# Altium schematic symbol library Linear Technology Power Management Energy Harvesting.SchLib: 169 symbols (part 11 of 13)
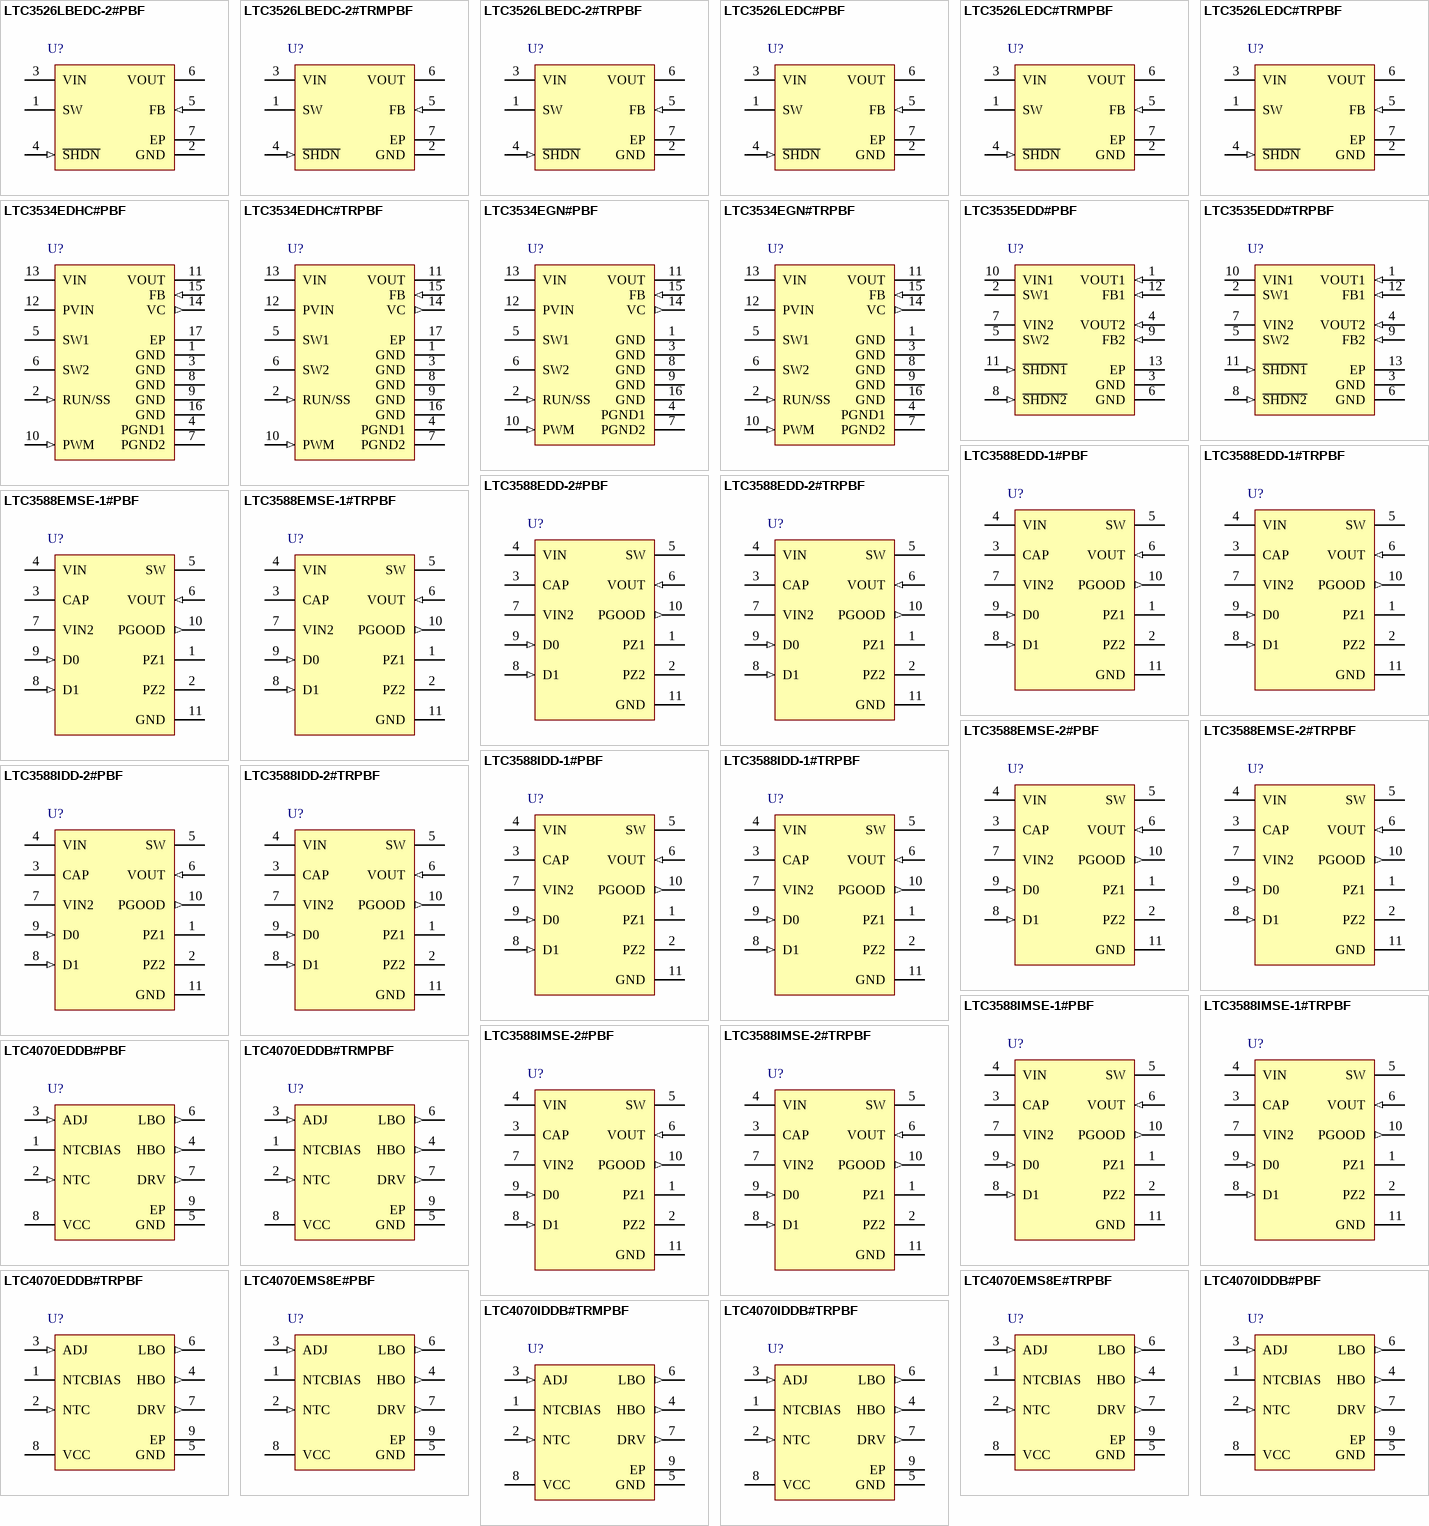
[diagram p15: symbols LTC3526LBEDC-2#PBF to LTC4070IDDB#TRPBF]

## LTC3535EDD#TRPBF
designator U?
Dual Channel 550 mA 1 MHz Synchronous Step-Up DC/DC Converter, 12-pin SON (DD-12), -40 to 85 degC, Pb-Free, Tape and Reel; Manufacturer: Linear Technology; PartNumber: LTC3535EDD#TRPBF; Number of Outputs: 2; Topology: Boost; Vin Max(V): 5; Vin Min(V): 0.5; DatasheetVersion: Rev. A; PackageVersion: Rev. A, 06/2010; PackageReference: DD-12; PackageDescription: 12-Pin Plastic DFN, Body 3 x 3 mm, Pitch 0.45 mm; Supplier 1: Digi-Key; Supplier Part Number 1: LTC3535EDD#TRPBF-ND; Packing: Tape and Reel; RoHS: TRUE; Mounting Technology: Surface Mount; ComponentLink1Description: Manufacturer URL; ComponentLink1URL: http://www.linear.com/; ComponentLink2Description: Datasheet; ComponentLink2URL: http://cds.linear.com/docs/en/datasheet/3535fa.pdf; ComponentLink3Description: Package Specification; ComponentLink3URL: http://cds.linear.com/docs/en/packaging/DFN_12_05-08-1725.pdf
footprint LT-DD-12_V (SON, 12-Leads, Body 3x3mm, Pitch 0.45mm, Thermal Pad 2.38x1.65mm)
pins: 1 VOUT1 (in) "Output Voltage Sense and Drain of the Internal Synchronous Rectifier for Channel 1. PCB trace length from VOUT1 to the output filter capacitor (4.7uF minimum) should be as short and wide as possible.", 2 SW1 "Switch Pin for Channel 1. Connect inductor between SW1 and VIN1. Keep PCB trace lengths as short and wide as possible to reduce EMI. If the inductor current falls to zero, or S\H\D\N\1\ is low, an internal anti-ringing (See Datasheet)", 3 GND (power) "Signal and Power Ground. Provide a short direct PCB path between GND and the (-) side of the input and output capacitors. The exposed pad must be soldered to the PCB ground plane. It serves as another ground connection and (See Datasheet)", 4 VOUT2 (in) "Output Voltage Sense and Drain of the Internal Synchronous Rectifier for Channel 2. PCB trace length from VOUT2 to the output filter capacitor (4.7uF minimum) should be as short and wide as possible.", 5 SW2 "Switch Pin for Channel 2. Connect inductor between SW2 and VIN2. Keep PCB trace lengths as short and wide as possible to reduce EMI. If the inductor current falls to zero, or S\H\D\N\2\ is low, an internal anti-ringing (See Datasheet)", 6 GND (power) "Signal and Power Ground. Provide a short direct PCB path between GND and the (-) side of the input and output capacitors. The exposed pad must be soldered to the PCB ground plane. It serves as another ground connection and (See Datasheet)", 7 VIN2 (power) "Battery Input Voltage for Channel 2. Connect a minimum of 1uF ceramic decoupling capacitor from this pin to ground.", 8 ~{SHDN2} (in) "Logic Controlled Shutdown Input for Channel 2. There is an internal 4Mohm pull-down on this pin. S\H\D\N\ = High: Normal operation. S\H\D\N\ = Low: Shutdown, quiescent current < 1uA.", 9 FB2 (in) "Feedback Input to the gm Error Amplifier of Channel 2. Connect resistor divider tap to this pin. The output voltage can be adjusted from 1.5V to 5.25V by: VOUT = 1.195V x [1 + (R4/R3)]", 10 VIN1 (power) "Battery Input Voltage for Channel 1. Connect a minimum of 1uF ceramic decoupling capacitor from this pin to ground.", 11 ~{SHDN1} (in) "Logic Controlled Shutdown Input for Channel 1. There is an internal 4Mohm pull-down on this pin. S\H\D\N\ = High: Normal operation. S\H\D\N\ = Low: Shutdown, quiescent current < 1uA.", 12 FB1 (in) "Feedback Input to the gm Error Amplifier of Channel 1. Connect resistor divider tap to this pin. The output voltage can be adjusted from 1.5V to 5.25V by: VOUT = 1.195V x [1 + (R2/R1)].", 13 EP (power) "Signal and Power Ground. Provide a short direct PCB path between GND and the (-) side of the input and output capacitors. The exposed pad must be soldered to the PCB ground plane. It serves as another ground connection and (See Datasheet)"

## LTC3588EDD-1#PBF
designator U?
Piezoelectric Energy Harvesting Power Supply, 10-pin SON (DD-10), -40 to 125 degC, Pb-Free; Manufacturer: Linear Technology; PartNumber: LTC3588EDD-1#PBF; Number of Outputs: 1; Topology: Buck; Vin Max(V): 20; Vin Min(V): 2.7; Vout Max(V): 1.8, 2.5, 3.3, 3.6; DatasheetVersion: Rev. A; PackageVersion: Rev. C, 06/2010; PackageReference: DD-10; PackageDescription: 10-Pin Plastic DFN, Body 3 x 3 mm, Pitch 0.5 mm; Supplier 1: Digi-Key; Supplier Part Number 1: LTC3588EDD-1#PBF-ND; Supplier 2: Farnell; Supplier Part Number 2: 1839153; Supplier 3: Newark; Supplier Part Number 3: 63R1665; Energy Source: Piezoelectric; RoHS: TRUE; Mounting Technology: Surface Mount; Code_JEDEC: MO-229; ComponentLink1Description: Manufacturer URL; ComponentLink1URL: http://www.linear.com/; ComponentLink2Description: Datasheet; ComponentLink2URL: http://cds.linear.com/docs/en/datasheet/35881fa.pdf; ComponentLink3Description: Package Specification; ComponentLink3URL: http://cds.linear.com/docs/en/packaging/DFN_10_05-08-1699.pdf
footprint LT-DD-10_V (SON, 10-Leads, Body 3x3mm, Pitch 0.5mm, Thermal Pad 2.38x1.65mm)
pins: 1 PZ1 (power) "Input connection for piezoelectric element or other AC source (used in conjunction with PZ2).", 2 PZ2 (power) "Input connection for piezoelectric element or other AC source (used in conjunction with PZ1).", 3 CAP "Internal rail referenced to VIN to serve as gate drive for buck PMOS switch. A 1uF capacitor should be connected between CAP and VIN. This pin is not intended for use as an external system rail.", 4 VIN (power) "Rectified Input Voltage. A capacitor on this pin serves as an energy reservoir and input supply for the buck regulator. The VIN voltage is internally clamped to a maximum of 20V (typical).", 5 SW (power) "Switch Pin for the Buck Switching Regulator. A 22uH or larger inductor should be connected from SW to VOUT.", 6 VOUT (in) "Sense pin used to monitor the output voltage and adjust it through internal feedback.", 7 VIN2 (power) "Internal low voltage rail to serve as gate drive for buck NMOS switch. Also serves as a logic high rail for output voltage select bits D0 and D1. A 4.7uF capacitor should be connected from VIN2 to GND. This pin is not (See Datasheet)", 8 D1 (in) "Output Voltage Select Bit. D1 should be tied high to VIN2 or low to GND to select desired VOUT (see Table 1).", 9 D0 (in) "Output Voltage Select Bit. D0 should be tied high to VIN2 or low to GND to select desired VOUT (see Table 1).", 10 PGOOD (out) "Power good output is logic high when VOUT is above 92% of the target value. The logic high is referenced to the VOUT rail.", 11 GND (power) "Ground. The Exposed Pad should be connected to a continuous ground plane on the second layer of the printed circuit board by several vias directly under the LTC3588-2."

## LTC3588EDD-1#TRPBF
designator U?
Piezoelectric Energy Harvesting Power Supply, 10-pin SON (DD-10), -40 to 125 degC, Pb-Free, Tape and Reel; Manufacturer: Linear Technology; PartNumber: LTC3588EDD-1#TRPBF; Number of Outputs: 1; Topology: Buck; Vin Max(V): 20; Vin Min(V): 2.7; Vout Max(V): 1.8, 2.5, 3.3, 3.6; DatasheetVersion: Rev. A; PackageVersion: Rev. C, 06/2010; PackageReference: DD-10; PackageDescription: 10-Pin Plastic DFN, Body 3 x 3 mm, Pitch 0.5 mm; Supplier 1: Digi-Key; Supplier Part Number 1: LTC3588EDD-1#TRPBF-ND; Supplier 2: Newark; Supplier Part Number 2: 63R7765; Energy Source: Piezoelectric; Packing: Tape and Reel; RoHS: TRUE; Mounting Technology: Surface Mount; Code_JEDEC: MO-229; ComponentLink1Description: Manufacturer URL; ComponentLink1URL: http://www.linear.com/; ComponentLink2Description: Datasheet; ComponentLink2URL: http://cds.linear.com/docs/en/datasheet/35881fa.pdf; ComponentLink3Description: Package Specification; ComponentLink3URL: http://cds.linear.com/docs/en/packaging/DFN_10_05-08-1699.pdf
footprint LT-DD-10_V (SON, 10-Leads, Body 3x3mm, Pitch 0.5mm, Thermal Pad 2.38x1.65mm)
pins: 1 PZ1 (power) "Input connection for piezoelectric element or other AC source (used in conjunction with PZ2).", 2 PZ2 (power) "Input connection for piezoelectric element or other AC source (used in conjunction with PZ1).", 3 CAP "Internal rail referenced to VIN to serve as gate drive for buck PMOS switch. A 1uF capacitor should be connected between CAP and VIN. This pin is not intended for use as an external system rail.", 4 VIN (power) "Rectified Input Voltage. A capacitor on this pin serves as an energy reservoir and input supply for the buck regulator. The VIN voltage is internally clamped to a maximum of 20V (typical).", 5 SW (power) "Switch Pin for the Buck Switching Regulator. A 22uH or larger inductor should be connected from SW to VOUT.", 6 VOUT (in) "Sense pin used to monitor the output voltage and adjust it through internal feedback.", 7 VIN2 (power) "Internal low voltage rail to serve as gate drive for buck NMOS switch. Also serves as a logic high rail for output voltage select bits D0 and D1. A 4.7uF capacitor should be connected from VIN2 to GND. This pin is not (See Datasheet)", 8 D1 (in) "Output Voltage Select Bit. D1 should be tied high to VIN2 or low to GND to select desired VOUT (see Table 1).", 9 D0 (in) "Output Voltage Select Bit. D0 should be tied high to VIN2 or low to GND to select desired VOUT (see Table 1).", 10 PGOOD (out) "Power good output is logic high when VOUT is above 92% of the target value. The logic high is referenced to the VOUT rail.", 11 GND (power) "Ground. The Exposed Pad should be connected to a continuous ground plane on the second layer of the printed circuit board by several vias directly under the LTC3588-2."

## LTC3588EDD-2#PBF
designator U?
Piezoelectric Energy Harvesting Power Supply with 14 V Minimum VIN, 10-pin SON (DD-10), -40 to 125 degC, Pb-Free; Manufacturer: Linear Technology; PartNumber: LTC3588EDD-2#PBF; Number of Outputs: 1; Topology: Buck; Vin Max(V): 20; Vin Min(V): 14; Vout Max(V): 3.45, 4.1, 4.5, 5; DatasheetVersion: Rev. A; PackageVersion: Rev. C, 06/2010; PackageReference: DD-10; PackageDescription: 10-Pin Plastic DFN, Body 3 x 3 mm, Pitch 0.5 mm; Supplier 1: Digi-Key; Supplier Part Number 1: LTC3588EDD-2#PBF-ND; Supplier 2: Farnell; Supplier Part Number 2: 1961465; Supplier 3: Newark; Supplier Part Number 3: 84R6696; Energy Source: Piezoelectric; RoHS: TRUE; Mounting Technology: Surface Mount; Code_JEDEC: MO-229; ComponentLink1Description: Manufacturer URL; ComponentLink1URL: http://www.linear.com/; ComponentLink2Description: Datasheet; ComponentLink2URL: http://cds.linear.com/docs/en/datasheet/35882fa.pdf; ComponentLink3Description: Package Specification; ComponentLink3URL: http://cds.linear.com/docs/en/packaging/DFN_10_05-08-1699.pdf
footprint LT-DD-10_V (SON, 10-Leads, Body 3x3mm, Pitch 0.5mm, Thermal Pad 2.38x1.65mm)
pins: 1 PZ1 (power) "Input connection for piezoelectric element or other AC source (used in conjunction with PZ2).", 2 PZ2 (power) "Input connection for piezoelectric element or other AC source (used in conjunction with PZ1).", 3 CAP "Internal rail referenced to VIN to serve as gate drive for buck PMOS switch. A 1uF capacitor should be connected between CAP and VIN. This pin is not intended for use as an external system rail.", 4 VIN (power) "Rectified Input Voltage. A capacitor on this pin serves as an energy reservoir and input supply for the buck regulator. The VIN voltage is internally clamped to a maximum of 20V (typical).", 5 SW (power) "Switch Pin for the Buck Switching Regulator. A 22uH or larger inductor should be connected from SW to VOUT.", 6 VOUT (in) "Sense pin used to monitor the output voltage and adjust it through internal feedback.", 7 VIN2 (power) "Internal low voltage rail to serve as gate drive for buck NMOS switch. Also serves as a logic high rail for output voltage select bits D0 and D1. A 4.7uF capacitor should be connected from VIN2 to GND. This pin is not (See Datasheet)", 8 D1 (in) "Output Voltage Select Bit. D1 should be tied high to VIN2 or low to GND to select desired VOUT (see Table 1).", 9 D0 (in) "Output Voltage Select Bit. D0 should be tied high to VIN2 or low to GND to select desired VOUT (see Table 1).", 10 PGOOD (out) "Power good output is logic high when VOUT is above 92% of the target value. The logic high is referenced to the VOUT rail.", 11 GND (power) "Ground. The Exposed Pad should be connected to a continuous ground plane on the second layer of the printed circuit board by several vias directly under the LTC3588-2."

## LTC3588EDD-2#TRPBF
designator U?
Piezoelectric Energy Harvesting Power Supply with 14 V Minimum VIN, 10-pin SON (DD-10), -40 to 125 degC, Pb-Free, Tape and Reel; Manufacturer: Linear Technology; PartNumber: LTC3588EDD-2#TRPBF; Number of Outputs: 1; Topology: Buck; Vin Max(V): 20; Vin Min(V): 14; Vout Max(V): 3.45, 4.1, 4.5, 5; DatasheetVersion: Rev. A; PackageVersion: Rev. C, 06/2010; PackageReference: DD-10; PackageDescription: 10-Pin Plastic DFN, Body 3 x 3 mm, Pitch 0.5 mm; Supplier 1: Digi-Key; Supplier Part Number 1: LTC3588EDD-2#TRPBF-ND; Energy Source: Piezoelectric; Packing: Tape and Reel; RoHS: TRUE; Mounting Technology: Surface Mount; Code_JEDEC: MO-229; ComponentLink1Description: Manufacturer URL; ComponentLink1URL: http://www.linear.com/; ComponentLink2Description: Datasheet; ComponentLink2URL: http://cds.linear.com/docs/en/datasheet/35882fa.pdf; ComponentLink3Description: Package Specification; ComponentLink3URL: http://cds.linear.com/docs/en/packaging/DFN_10_05-08-1699.pdf
footprint LT-DD-10_V (SON, 10-Leads, Body 3x3mm, Pitch 0.5mm, Thermal Pad 2.38x1.65mm)
pins: 1 PZ1 (power) "Input connection for piezoelectric element or other AC source (used in conjunction with PZ2).", 2 PZ2 (power) "Input connection for piezoelectric element or other AC source (used in conjunction with PZ1).", 3 CAP "Internal rail referenced to VIN to serve as gate drive for buck PMOS switch. A 1uF capacitor should be connected between CAP and VIN. This pin is not intended for use as an external system rail.", 4 VIN (power) "Rectified Input Voltage. A capacitor on this pin serves as an energy reservoir and input supply for the buck regulator. The VIN voltage is internally clamped to a maximum of 20V (typical).", 5 SW (power) "Switch Pin for the Buck Switching Regulator. A 22uH or larger inductor should be connected from SW to VOUT.", 6 VOUT (in) "Sense pin used to monitor the output voltage and adjust it through internal feedback.", 7 VIN2 (power) "Internal low voltage rail to serve as gate drive for buck NMOS switch. Also serves as a logic high rail for output voltage select bits D0 and D1. A 4.7uF capacitor should be connected from VIN2 to GND. This pin is not (See Datasheet)", 8 D1 (in) "Output Voltage Select Bit. D1 should be tied high to VIN2 or low to GND to select desired VOUT (see Table 1).", 9 D0 (in) "Output Voltage Select Bit. D0 should be tied high to VIN2 or low to GND to select desired VOUT (see Table 1).", 10 PGOOD (out) "Power good output is logic high when VOUT is above 92% of the target value. The logic high is referenced to the VOUT rail.", 11 GND (power) "Ground. The Exposed Pad should be connected to a continuous ground plane on the second layer of the printed circuit board by several vias directly under the LTC3588-2."

## LTC3588EMSE-1#PBF
designator U?
Piezoelectric Energy Harvesting Power Supply, 10-pin SOP (MSE-10), -40 to 125 degC, Pb-Free; Manufacturer: Linear Technology; PartNumber: LTC3588EMSE-1#PBF; Number of Outputs: 1; Topology: Buck; Vin Max(V): 20; Vin Min(V): 2.7; Vout Max(V): 1.8, 2.5, 3.3, 3.6; DatasheetVersion: Rev. A; PackageVersion: Rev. I, 05/2013; PackageReference: MSE-10; PackageDescription: 10-Pin Plastic MSOP, Exposed Die Pad, Body 3 x 3 mm, Pitch 0.5 mm; Supplier 1: Digi-Key; Supplier Part Number 1: LTC3588EMSE-1#PBF-ND; Supplier 2: Farnell; Supplier Part Number 2: 1839154; Supplier 3: Newark; Supplier Part Number 3: 63R1666; Energy Source: Piezoelectric; RoHS: TRUE; Mounting Technology: Surface Mount; ComponentLink1Description: Manufacturer URL; ComponentLink1URL: http://www.linear.com/; ComponentLink2Description: Datasheet; ComponentLink2URL: http://cds.linear.com/docs/en/datasheet/35881fa.pdf; ComponentLink3Description: Package Specification; ComponentLink3URL: http://cds.linear.com/docs/en/packaging/05081664_I_MSE.pdf
footprint LT-MSE-10-EDP_N (SOP, 10-Leads, Body 3.1x3.1mm, Pitch 0.5mm, Thermal Pad 1.88x1.68mm, IPC Medium Density)
footprint LT-MSE-10-EDP_L (SOP, 10-Leads, Body 3.1x3.1mm, Pitch 0.5mm, Thermal Pad 1.88x1.68mm, IPC High Density)
footprint LT-MSE-10-EDP_M (SOP, 10-Leads, Body 3.1x3.1mm, Pitch 0.5mm, Thermal Pad 1.88x1.68mm, IPC Low Density)
pins: 1 PZ1 (power) "Input connection for piezoelectric element or other AC source (used in conjunction with PZ2).", 2 PZ2 (power) "Input connection for piezoelectric element or other AC source (used in conjunction with PZ1).", 3 CAP "Internal rail referenced to VIN to serve as gate drive for buck PMOS switch. A 1uF capacitor should be connected between CAP and VIN. This pin is not intended for use as an external system rail.", 4 VIN (power) "Rectified Input Voltage. A capacitor on this pin serves as an energy reservoir and input supply for the buck regulator. The VIN voltage is internally clamped to a maximum of 20V (typical).", 5 SW (power) "Switch Pin for the Buck Switching Regulator. A 22uH or larger inductor should be connected from SW to VOUT.", 6 VOUT (in) "Sense pin used to monitor the output voltage and adjust it through internal feedback.", 7 VIN2 (power) "Internal low voltage rail to serve as gate drive for buck NMOS switch. Also serves as a logic high rail for output voltage select bits D0 and D1. A 4.7uF capacitor should be connected from VIN2 to GND. This pin is not (See Datasheet)", 8 D1 (in) "Output Voltage Select Bit. D1 should be tied high to VIN2 or low to GND to select desired VOUT (see Table 1).", 9 D0 (in) "Output Voltage Select Bit. D0 should be tied high to VIN2 or low to GND to select desired VOUT (see Table 1).", 10 PGOOD (out) "Power good output is logic high when VOUT is above 92% of the target value. The logic high is referenced to the VOUT rail.", 11 GND (power) "Ground. The Exposed Pad should be connected to a continuous ground plane on the second layer of the printed circuit board by several vias directly under the LTC3588-2."

## LTC3588EMSE-1#TRPBF
designator U?
Piezoelectric Energy Harvesting Power Supply, 10-pin SOP (MSE-10), -40 to 125 degC, Pb-Free, Tape and Reel; Manufacturer: Linear Technology; PartNumber: LTC3588EMSE-1#TRPBF; Number of Outputs: 1; Topology: Buck; Vin Max(V): 20; Vin Min(V): 2.7; Vout Max(V): 1.8, 2.5, 3.3, 3.6; DatasheetVersion: Rev. A; PackageVersion: Rev. I, 05/2013; PackageReference: MSE-10; PackageDescription: 10-Pin Plastic MSOP, Exposed Die Pad, Body 3 x 3 mm, Pitch 0.5 mm; Supplier 1: Digi-Key; Supplier Part Number 1: LTC3588EMSE-1#TRPBF-ND; Energy Source: Piezoelectric; Packing: Tape and Reel; RoHS: TRUE; Mounting Technology: Surface Mount; ComponentLink1Description: Manufacturer URL; ComponentLink1URL: http://www.linear.com/; ComponentLink2Description: Datasheet; ComponentLink2URL: http://cds.linear.com/docs/en/datasheet/35881fa.pdf; ComponentLink3Description: Package Specification; ComponentLink3URL: http://cds.linear.com/docs/en/packaging/05081664_I_MSE.pdf
footprint LT-MSE-10-EDP_N (SOP, 10-Leads, Body 3.1x3.1mm, Pitch 0.5mm, Thermal Pad 1.88x1.68mm, IPC Medium Density)
footprint LT-MSE-10-EDP_L (SOP, 10-Leads, Body 3.1x3.1mm, Pitch 0.5mm, Thermal Pad 1.88x1.68mm, IPC High Density)
footprint LT-MSE-10-EDP_M (SOP, 10-Leads, Body 3.1x3.1mm, Pitch 0.5mm, Thermal Pad 1.88x1.68mm, IPC Low Density)
pins: 1 PZ1 (power) "Input connection for piezoelectric element or other AC source (used in conjunction with PZ2).", 2 PZ2 (power) "Input connection for piezoelectric element or other AC source (used in conjunction with PZ1).", 3 CAP "Internal rail referenced to VIN to serve as gate drive for buck PMOS switch. A 1uF capacitor should be connected between CAP and VIN. This pin is not intended for use as an external system rail.", 4 VIN (power) "Rectified Input Voltage. A capacitor on this pin serves as an energy reservoir and input supply for the buck regulator. The VIN voltage is internally clamped to a maximum of 20V (typical).", 5 SW (power) "Switch Pin for the Buck Switching Regulator. A 22uH or larger inductor should be connected from SW to VOUT.", 6 VOUT (in) "Sense pin used to monitor the output voltage and adjust it through internal feedback.", 7 VIN2 (power) "Internal low voltage rail to serve as gate drive for buck NMOS switch. Also serves as a logic high rail for output voltage select bits D0 and D1. A 4.7uF capacitor should be connected from VIN2 to GND. This pin is not (See Datasheet)", 8 D1 (in) "Output Voltage Select Bit. D1 should be tied high to VIN2 or low to GND to select desired VOUT (see Table 1).", 9 D0 (in) "Output Voltage Select Bit. D0 should be tied high to VIN2 or low to GND to select desired VOUT (see Table 1).", 10 PGOOD (out) "Power good output is logic high when VOUT is above 92% of the target value. The logic high is referenced to the VOUT rail.", 11 GND (power) "Ground. The Exposed Pad should be connected to a continuous ground plane on the second layer of the printed circuit board by several vias directly under the LTC3588-2."

## LTC3588EMSE-2#PBF
designator U?
Piezoelectric Energy Harvesting Power Supply with 14 V Minimum VIN, 10-pin SOP (MSE-10), -40 to 125 degC, Pb-Free; Manufacturer: Linear Technology; PartNumber: LTC3588EMSE-2#PBF; Number of Outputs: 1; Topology: Buck; Vin Max(V): 20; Vin Min(V): 14; Vout Max(V): 3.45, 4.1, 4.5, 5; DatasheetVersion: Rev. A; PackageVersion: Rev. I, 05/2013; PackageReference: MSE-10; PackageDescription: 10-Pin Plastic MSOP, Exposed Die Pad, Body 3 x 3 mm, Pitch 0.5 mm; Supplier 1: Digi-Key; Supplier Part Number 1: LTC3588EMSE-2#PBF-ND; Supplier 2: Farnell; Supplier Part Number 2: 1847641; Supplier 3: Newark; Supplier Part Number 3: 84R6698; Energy Source: Piezoelectric; RoHS: TRUE; Mounting Technology: Surface Mount; ComponentLink1Description: Manufacturer URL; ComponentLink1URL: http://www.linear.com/; ComponentLink2Description: Datasheet; ComponentLink2URL: http://cds.linear.com/docs/en/datasheet/35882fa.pdf; ComponentLink3Description: Package Specification; ComponentLink3URL: http://cds.linear.com/docs/en/packaging/05081664_I_MSE.pdf
footprint LT-MSE-10-EDP_N (SOP, 10-Leads, Body 3.1x3.1mm, Pitch 0.5mm, Thermal Pad 1.88x1.68mm, IPC Medium Density)
footprint LT-MSE-10-EDP_L (SOP, 10-Leads, Body 3.1x3.1mm, Pitch 0.5mm, Thermal Pad 1.88x1.68mm, IPC High Density)
footprint LT-MSE-10-EDP_M (SOP, 10-Leads, Body 3.1x3.1mm, Pitch 0.5mm, Thermal Pad 1.88x1.68mm, IPC Low Density)
pins: 1 PZ1 (power) "Input connection for piezoelectric element or other AC source (used in conjunction with PZ2).", 2 PZ2 (power) "Input connection for piezoelectric element or other AC source (used in conjunction with PZ1).", 3 CAP "Internal rail referenced to VIN to serve as gate drive for buck PMOS switch. A 1uF capacitor should be connected between CAP and VIN. This pin is not intended for use as an external system rail.", 4 VIN (power) "Rectified Input Voltage. A capacitor on this pin serves as an energy reservoir and input supply for the buck regulator. The VIN voltage is internally clamped to a maximum of 20V (typical).", 5 SW (power) "Switch Pin for the Buck Switching Regulator. A 22uH or larger inductor should be connected from SW to VOUT.", 6 VOUT (in) "Sense pin used to monitor the output voltage and adjust it through internal feedback.", 7 VIN2 (power) "Internal low voltage rail to serve as gate drive for buck NMOS switch. Also serves as a logic high rail for output voltage select bits D0 and D1. A 4.7uF capacitor should be connected from VIN2 to GND. This pin is not (See Datasheet)", 8 D1 (in) "Output Voltage Select Bit. D1 should be tied high to VIN2 or low to GND to select desired VOUT (see Table 1).", 9 D0 (in) "Output Voltage Select Bit. D0 should be tied high to VIN2 or low to GND to select desired VOUT (see Table 1).", 10 PGOOD (out) "Power good output is logic high when VOUT is above 92% of the target value. The logic high is referenced to the VOUT rail.", 11 GND (power) "Ground. The Exposed Pad should be connected to a continuous ground plane on the second layer of the printed circuit board by several vias directly under the LTC3588-2."

## LTC3588EMSE-2#TRPBF
designator U?
Piezoelectric Energy Harvesting Power Supply with 14 V Minimum VIN, 10-pin SOP (MSE-10), -40 to 125 degC, Pb-Free, Tape and Reel; Manufacturer: Linear Technology; PartNumber: LTC3588EMSE-2#TRPBF; Number of Outputs: 1; Topology: Buck; Vin Max(V): 20; Vin Min(V): 14; Vout Max(V): 3.45, 4.1, 4.5, 5; DatasheetVersion: Rev. A; PackageVersion: Rev. I, 05/2013; PackageReference: MSE-10; PackageDescription: 10-Pin Plastic MSOP, Exposed Die Pad, Body 3 x 3 mm, Pitch 0.5 mm; Supplier 1: Digi-Key; Supplier Part Number 1: LTC3588EMSE-2#TRPBF-ND; Energy Source: Piezoelectric; Packing: Tape and Reel; RoHS: TRUE; Mounting Technology: Surface Mount; ComponentLink1Description: Manufacturer URL; ComponentLink1URL: http://www.linear.com/; ComponentLink2Description: Datasheet; ComponentLink2URL: http://cds.linear.com/docs/en/datasheet/35882fa.pdf; ComponentLink3Description: Package Specification; ComponentLink3URL: http://cds.linear.com/docs/en/packaging/05081664_I_MSE.pdf
footprint LT-MSE-10-EDP_N (SOP, 10-Leads, Body 3.1x3.1mm, Pitch 0.5mm, Thermal Pad 1.88x1.68mm, IPC Medium Density)
footprint LT-MSE-10-EDP_L (SOP, 10-Leads, Body 3.1x3.1mm, Pitch 0.5mm, Thermal Pad 1.88x1.68mm, IPC High Density)
footprint LT-MSE-10-EDP_M (SOP, 10-Leads, Body 3.1x3.1mm, Pitch 0.5mm, Thermal Pad 1.88x1.68mm, IPC Low Density)
pins: 1 PZ1 (power) "Input connection for piezoelectric element or other AC source (used in conjunction with PZ2).", 2 PZ2 (power) "Input connection for piezoelectric element or other AC source (used in conjunction with PZ1).", 3 CAP "Internal rail referenced to VIN to serve as gate drive for buck PMOS switch. A 1uF capacitor should be connected between CAP and VIN. This pin is not intended for use as an external system rail.", 4 VIN (power) "Rectified Input Voltage. A capacitor on this pin serves as an energy reservoir and input supply for the buck regulator. The VIN voltage is internally clamped to a maximum of 20V (typical).", 5 SW (power) "Switch Pin for the Buck Switching Regulator. A 22uH or larger inductor should be connected from SW to VOUT.", 6 VOUT (in) "Sense pin used to monitor the output voltage and adjust it through internal feedback.", 7 VIN2 (power) "Internal low voltage rail to serve as gate drive for buck NMOS switch. Also serves as a logic high rail for output voltage select bits D0 and D1. A 4.7uF capacitor should be connected from VIN2 to GND. This pin is not (See Datasheet)", 8 D1 (in) "Output Voltage Select Bit. D1 should be tied high to VIN2 or low to GND to select desired VOUT (see Table 1).", 9 D0 (in) "Output Voltage Select Bit. D0 should be tied high to VIN2 or low to GND to select desired VOUT (see Table 1).", 10 PGOOD (out) "Power good output is logic high when VOUT is above 92% of the target value. The logic high is referenced to the VOUT rail.", 11 GND (power) "Ground. The Exposed Pad should be connected to a continuous ground plane on the second layer of the printed circuit board by several vias directly under the LTC3588-2."

## LTC3588IDD-1#PBF
designator U?
Piezoelectric Energy Harvesting Power Supply, 10-pin SON (DD-10), -40 to 125 degC, Pb-Free; Manufacturer: Linear Technology; PartNumber: LTC3588IDD-1#PBF; Number of Outputs: 1; Topology: Buck; Vin Max(V): 20; Vin Min(V): 2.7; Vout Max(V): 1.8, 2.5, 3.3, 3.6; DatasheetVersion: Rev. A; PackageVersion: Rev. C, 06/2010; PackageReference: DD-10; PackageDescription: 10-Pin Plastic DFN, Body 3 x 3 mm, Pitch 0.5 mm; Supplier 1: Digi-Key; Supplier Part Number 1: LTC3588IDD-1#PBF-ND; Supplier 2: Farnell; Supplier Part Number 2: 2137006; Supplier 3: Newark; Supplier Part Number 3: 63R7767; Energy Source: Piezoelectric; RoHS: TRUE; Mounting Technology: Surface Mount; Code_JEDEC: MO-229; ComponentLink1Description: Manufacturer URL; ComponentLink1URL: http://www.linear.com/; ComponentLink2Description: Datasheet; ComponentLink2URL: http://cds.linear.com/docs/en/datasheet/35881fa.pdf; ComponentLink3Description: Package Specification; ComponentLink3URL: http://cds.linear.com/docs/en/packaging/DFN_10_05-08-1699.pdf
footprint LT-DD-10_V (SON, 10-Leads, Body 3x3mm, Pitch 0.5mm, Thermal Pad 2.38x1.65mm)
pins: 1 PZ1 (power) "Input connection for piezoelectric element or other AC source (used in conjunction with PZ2).", 2 PZ2 (power) "Input connection for piezoelectric element or other AC source (used in conjunction with PZ1).", 3 CAP "Internal rail referenced to VIN to serve as gate drive for buck PMOS switch. A 1uF capacitor should be connected between CAP and VIN. This pin is not intended for use as an external system rail.", 4 VIN (power) "Rectified Input Voltage. A capacitor on this pin serves as an energy reservoir and input supply for the buck regulator. The VIN voltage is internally clamped to a maximum of 20V (typical).", 5 SW (power) "Switch Pin for the Buck Switching Regulator. A 22uH or larger inductor should be connected from SW to VOUT.", 6 VOUT (in) "Sense pin used to monitor the output voltage and adjust it through internal feedback.", 7 VIN2 (power) "Internal low voltage rail to serve as gate drive for buck NMOS switch. Also serves as a logic high rail for output voltage select bits D0 and D1. A 4.7uF capacitor should be connected from VIN2 to GND. This pin is not (See Datasheet)", 8 D1 (in) "Output Voltage Select Bit. D1 should be tied high to VIN2 or low to GND to select desired VOUT (see Table 1).", 9 D0 (in) "Output Voltage Select Bit. D0 should be tied high to VIN2 or low to GND to select desired VOUT (see Table 1).", 10 PGOOD (out) "Power good output is logic high when VOUT is above 92% of the target value. The logic high is referenced to the VOUT rail.", 11 GND (power) "Ground. The Exposed Pad should be connected to a continuous ground plane on the second layer of the printed circuit board by several vias directly under the LTC3588-2."

## LTC3588IDD-1#TRPBF
designator U?
Piezoelectric Energy Harvesting Power Supply, 10-pin SON (DD-10), -40 to 125 degC, Pb-Free, Tape and Reel; Manufacturer: Linear Technology; PartNumber: LTC3588IDD-1#TRPBF; Number of Outputs: 1; Topology: Buck; Vin Max(V): 20; Vin Min(V): 2.7; Vout Max(V): 1.8, 2.5, 3.3, 3.6; DatasheetVersion: Rev. A; PackageVersion: Rev. C, 06/2010; PackageReference: DD-10; PackageDescription: 10-Pin Plastic DFN, Body 3 x 3 mm, Pitch 0.5 mm; Supplier 1: Digi-Key; Supplier Part Number 1: LTC3588IDD-1#TRPBF-ND; Energy Source: Piezoelectric; Packing: Tape and Reel; RoHS: TRUE; Mounting Technology: Surface Mount; Code_JEDEC: MO-229; ComponentLink1Description: Manufacturer URL; ComponentLink1URL: http://www.linear.com/; ComponentLink2Description: Datasheet; ComponentLink2URL: http://cds.linear.com/docs/en/datasheet/35881fa.pdf; ComponentLink3Description: Package Specification; ComponentLink3URL: http://cds.linear.com/docs/en/packaging/DFN_10_05-08-1699.pdf
footprint LT-DD-10_V (SON, 10-Leads, Body 3x3mm, Pitch 0.5mm, Thermal Pad 2.38x1.65mm)
pins: 1 PZ1 (power) "Input connection for piezoelectric element or other AC source (used in conjunction with PZ2).", 2 PZ2 (power) "Input connection for piezoelectric element or other AC source (used in conjunction with PZ1).", 3 CAP "Internal rail referenced to VIN to serve as gate drive for buck PMOS switch. A 1uF capacitor should be connected between CAP and VIN. This pin is not intended for use as an external system rail.", 4 VIN (power) "Rectified Input Voltage. A capacitor on this pin serves as an energy reservoir and input supply for the buck regulator. The VIN voltage is internally clamped to a maximum of 20V (typical).", 5 SW (power) "Switch Pin for the Buck Switching Regulator. A 22uH or larger inductor should be connected from SW to VOUT.", 6 VOUT (in) "Sense pin used to monitor the output voltage and adjust it through internal feedback.", 7 VIN2 (power) "Internal low voltage rail to serve as gate drive for buck NMOS switch. Also serves as a logic high rail for output voltage select bits D0 and D1. A 4.7uF capacitor should be connected from VIN2 to GND. This pin is not (See Datasheet)", 8 D1 (in) "Output Voltage Select Bit. D1 should be tied high to VIN2 or low to GND to select desired VOUT (see Table 1).", 9 D0 (in) "Output Voltage Select Bit. D0 should be tied high to VIN2 or low to GND to select desired VOUT (see Table 1).", 10 PGOOD (out) "Power good output is logic high when VOUT is above 92% of the target value. The logic high is referenced to the VOUT rail.", 11 GND (power) "Ground. The Exposed Pad should be connected to a continuous ground plane on the second layer of the printed circuit board by several vias directly under the LTC3588-2."

## LTC3588IDD-2#PBF
designator U?
Piezoelectric Energy Harvesting Power Supply with 14 V Minimum VIN, 10-pin SON (DD-10), -40 to 125 degC, Pb-Free; Manufacturer: Linear Technology; PartNumber: LTC3588IDD-2#PBF; Number of Outputs: 1; Topology: Buck; Vin Max(V): 20; Vin Min(V): 14; Vout Max(V): 3.45, 4.1, 4.5, 5; DatasheetVersion: Rev. A; PackageVersion: Rev. C, 06/2010; PackageReference: DD-10; PackageDescription: 10-Pin Plastic DFN, Body 3 x 3 mm, Pitch 0.5 mm; Supplier 1: Digi-Key; Supplier Part Number 1: LTC3588IDD-2#PBF-ND; Supplier 2: Farnell; Supplier Part Number 2: 2137007; Energy Source: Piezoelectric; RoHS: TRUE; Mounting Technology: Surface Mount; Code_JEDEC: MO-229; ComponentLink1Description: Manufacturer URL; ComponentLink1URL: http://www.linear.com/; ComponentLink2Description: Datasheet; ComponentLink2URL: http://cds.linear.com/docs/en/datasheet/35882fa.pdf; ComponentLink3Description: Package Specification; ComponentLink3URL: http://cds.linear.com/docs/en/packaging/DFN_10_05-08-1699.pdf
footprint LT-DD-10_V (SON, 10-Leads, Body 3x3mm, Pitch 0.5mm, Thermal Pad 2.38x1.65mm)
pins: 1 PZ1 (power) "Input connection for piezoelectric element or other AC source (used in conjunction with PZ2).", 2 PZ2 (power) "Input connection for piezoelectric element or other AC source (used in conjunction with PZ1).", 3 CAP "Internal rail referenced to VIN to serve as gate drive for buck PMOS switch. A 1uF capacitor should be connected between CAP and VIN. This pin is not intended for use as an external system rail.", 4 VIN (power) "Rectified Input Voltage. A capacitor on this pin serves as an energy reservoir and input supply for the buck regulator. The VIN voltage is internally clamped to a maximum of 20V (typical).", 5 SW (power) "Switch Pin for the Buck Switching Regulator. A 22uH or larger inductor should be connected from SW to VOUT.", 6 VOUT (in) "Sense pin used to monitor the output voltage and adjust it through internal feedback.", 7 VIN2 (power) "Internal low voltage rail to serve as gate drive for buck NMOS switch. Also serves as a logic high rail for output voltage select bits D0 and D1. A 4.7uF capacitor should be connected from VIN2 to GND. This pin is not (See Datasheet)", 8 D1 (in) "Output Voltage Select Bit. D1 should be tied high to VIN2 or low to GND to select desired VOUT (see Table 1).", 9 D0 (in) "Output Voltage Select Bit. D0 should be tied high to VIN2 or low to GND to select desired VOUT (see Table 1).", 10 PGOOD (out) "Power good output is logic high when VOUT is above 92% of the target value. The logic high is referenced to the VOUT rail.", 11 GND (power) "Ground. The Exposed Pad should be connected to a continuous ground plane on the second layer of the printed circuit board by several vias directly under the LTC3588-2."

## LTC3588IDD-2#TRPBF
designator U?
Piezoelectric Energy Harvesting Power Supply with 14 V Minimum VIN, 10-pin SON (DD-10), -40 to 125 degC, Pb-Free, Tape and Reel; Manufacturer: Linear Technology; PartNumber: LTC3588IDD-2#TRPBF; Number of Outputs: 1; Topology: Buck; Vin Max(V): 20; Vin Min(V): 14; Vout Max(V): 3.45, 4.1, 4.5, 5; DatasheetVersion: Rev. A; PackageVersion: Rev. C, 06/2010; PackageReference: DD-10; PackageDescription: 10-Pin Plastic DFN, Body 3 x 3 mm, Pitch 0.5 mm; Supplier 1: Digi-Key; Supplier Part Number 1: LTC3588IDD-2#TRPBF-ND; Energy Source: Piezoelectric; Packing: Tape and Reel; RoHS: TRUE; Mounting Technology: Surface Mount; Code_JEDEC: MO-229; ComponentLink1Description: Manufacturer URL; ComponentLink1URL: http://www.linear.com/; ComponentLink2Description: Datasheet; ComponentLink2URL: http://cds.linear.com/docs/en/datasheet/35882fa.pdf; ComponentLink3Description: Package Specification; ComponentLink3URL: http://cds.linear.com/docs/en/packaging/DFN_10_05-08-1699.pdf
footprint LT-DD-10_V (SON, 10-Leads, Body 3x3mm, Pitch 0.5mm, Thermal Pad 2.38x1.65mm)
pins: 1 PZ1 (power) "Input connection for piezoelectric element or other AC source (used in conjunction with PZ2).", 2 PZ2 (power) "Input connection for piezoelectric element or other AC source (used in conjunction with PZ1).", 3 CAP "Internal rail referenced to VIN to serve as gate drive for buck PMOS switch. A 1uF capacitor should be connected between CAP and VIN. This pin is not intended for use as an external system rail.", 4 VIN (power) "Rectified Input Voltage. A capacitor on this pin serves as an energy reservoir and input supply for the buck regulator. The VIN voltage is internally clamped to a maximum of 20V (typical).", 5 SW (power) "Switch Pin for the Buck Switching Regulator. A 22uH or larger inductor should be connected from SW to VOUT.", 6 VOUT (in) "Sense pin used to monitor the output voltage and adjust it through internal feedback.", 7 VIN2 (power) "Internal low voltage rail to serve as gate drive for buck NMOS switch. Also serves as a logic high rail for output voltage select bits D0 and D1. A 4.7uF capacitor should be connected from VIN2 to GND. This pin is not (See Datasheet)", 8 D1 (in) "Output Voltage Select Bit. D1 should be tied high to VIN2 or low to GND to select desired VOUT (see Table 1).", 9 D0 (in) "Output Voltage Select Bit. D0 should be tied high to VIN2 or low to GND to select desired VOUT (see Table 1).", 10 PGOOD (out) "Power good output is logic high when VOUT is above 92% of the target value. The logic high is referenced to the VOUT rail.", 11 GND (power) "Ground. The Exposed Pad should be connected to a continuous ground plane on the second layer of the printed circuit board by several vias directly under the LTC3588-2."

## LTC3588IMSE-1#PBF
designator U?
Piezoelectric Energy Harvesting Power Supply, 10-pin SOP (MSE-10), -40 to 125 degC, Pb-Free; Manufacturer: Linear Technology; PartNumber: LTC3588IMSE-1#PBF; Number of Outputs: 1; Topology: Buck; Vin Max(V): 20; Vin Min(V): 2.7; Vout Max(V): 1.8, 2.5, 3.3, 3.6; DatasheetVersion: Rev. A; PackageVersion: Rev. I, 05/2013; PackageReference: MSE-10; PackageDescription: 10-Pin Plastic MSOP, Exposed Die Pad, Body 3 x 3 mm, Pitch 0.5 mm; Supplier 1: Digi-Key; Supplier Part Number 1: LTC3588IMSE-1#PBF-ND; Supplier 2: Farnell; Supplier Part Number 2: 1839155; Supplier 3: Newark; Supplier Part Number 3: 63R1667; Energy Source: Piezoelectric; RoHS: TRUE; Mounting Technology: Surface Mount; ComponentLink1Description: Manufacturer URL; ComponentLink1URL: http://www.linear.com/; ComponentLink2Description: Datasheet; ComponentLink2URL: http://cds.linear.com/docs/en/datasheet/35881fa.pdf; ComponentLink3Description: Package Specification; ComponentLink3URL: http://cds.linear.com/docs/en/packaging/05081664_I_MSE.pdf
footprint LT-MSE-10-EDP_N (SOP, 10-Leads, Body 3.1x3.1mm, Pitch 0.5mm, Thermal Pad 1.88x1.68mm, IPC Medium Density)
footprint LT-MSE-10-EDP_L (SOP, 10-Leads, Body 3.1x3.1mm, Pitch 0.5mm, Thermal Pad 1.88x1.68mm, IPC High Density)
footprint LT-MSE-10-EDP_M (SOP, 10-Leads, Body 3.1x3.1mm, Pitch 0.5mm, Thermal Pad 1.88x1.68mm, IPC Low Density)
pins: 1 PZ1 (power) "Input connection for piezoelectric element or other AC source (used in conjunction with PZ2).", 2 PZ2 (power) "Input connection for piezoelectric element or other AC source (used in conjunction with PZ1).", 3 CAP "Internal rail referenced to VIN to serve as gate drive for buck PMOS switch. A 1uF capacitor should be connected between CAP and VIN. This pin is not intended for use as an external system rail.", 4 VIN (power) "Rectified Input Voltage. A capacitor on this pin serves as an energy reservoir and input supply for the buck regulator. The VIN voltage is internally clamped to a maximum of 20V (typical).", 5 SW (power) "Switch Pin for the Buck Switching Regulator. A 22uH or larger inductor should be connected from SW to VOUT.", 6 VOUT (in) "Sense pin used to monitor the output voltage and adjust it through internal feedback.", 7 VIN2 (power) "Internal low voltage rail to serve as gate drive for buck NMOS switch. Also serves as a logic high rail for output voltage select bits D0 and D1. A 4.7uF capacitor should be connected from VIN2 to GND. This pin is not (See Datasheet)", 8 D1 (in) "Output Voltage Select Bit. D1 should be tied high to VIN2 or low to GND to select desired VOUT (see Table 1).", 9 D0 (in) "Output Voltage Select Bit. D0 should be tied high to VIN2 or low to GND to select desired VOUT (see Table 1).", 10 PGOOD (out) "Power good output is logic high when VOUT is above 92% of the target value. The logic high is referenced to the VOUT rail.", 11 GND (power) "Ground. The Exposed Pad should be connected to a continuous ground plane on the second layer of the printed circuit board by several vias directly under the LTC3588-2."

## LTC3588IMSE-1#TRPBF
designator U?
Piezoelectric Energy Harvesting Power Supply, 10-pin SOP (MSE-10), -40 to 125 degC, Pb-Free, Tape and Reel; Manufacturer: Linear Technology; PartNumber: LTC3588IMSE-1#TRPBF; Number of Outputs: 1; Topology: Buck; Vin Max(V): 20; Vin Min(V): 2.7; Vout Max(V): 1.8, 2.5, 3.3, 3.6; DatasheetVersion: Rev. A; PackageVersion: Rev. I, 05/2013; PackageReference: MSE-10; PackageDescription: 10-Pin Plastic MSOP, Exposed Die Pad, Body 3 x 3 mm, Pitch 0.5 mm; Supplier 1: Digi-Key; Supplier Part Number 1: LTC3588IMSE-1#TRPBF-ND; Energy Source: Piezoelectric; Packing: Tape and Reel; RoHS: TRUE; Mounting Technology: Surface Mount; ComponentLink1Description: Manufacturer URL; ComponentLink1URL: http://www.linear.com/; ComponentLink2Description: Datasheet; ComponentLink2URL: http://cds.linear.com/docs/en/datasheet/35881fa.pdf; ComponentLink3Description: Package Specification; ComponentLink3URL: http://cds.linear.com/docs/en/packaging/05081664_I_MSE.pdf
footprint LT-MSE-10-EDP_N (SOP, 10-Leads, Body 3.1x3.1mm, Pitch 0.5mm, Thermal Pad 1.88x1.68mm, IPC Medium Density)
footprint LT-MSE-10-EDP_L (SOP, 10-Leads, Body 3.1x3.1mm, Pitch 0.5mm, Thermal Pad 1.88x1.68mm, IPC High Density)
footprint LT-MSE-10-EDP_M (SOP, 10-Leads, Body 3.1x3.1mm, Pitch 0.5mm, Thermal Pad 1.88x1.68mm, IPC Low Density)
pins: 1 PZ1 (power) "Input connection for piezoelectric element or other AC source (used in conjunction with PZ2).", 2 PZ2 (power) "Input connection for piezoelectric element or other AC source (used in conjunction with PZ1).", 3 CAP "Internal rail referenced to VIN to serve as gate drive for buck PMOS switch. A 1uF capacitor should be connected between CAP and VIN. This pin is not intended for use as an external system rail.", 4 VIN (power) "Rectified Input Voltage. A capacitor on this pin serves as an energy reservoir and input supply for the buck regulator. The VIN voltage is internally clamped to a maximum of 20V (typical).", 5 SW (power) "Switch Pin for the Buck Switching Regulator. A 22uH or larger inductor should be connected from SW to VOUT.", 6 VOUT (in) "Sense pin used to monitor the output voltage and adjust it through internal feedback.", 7 VIN2 (power) "Internal low voltage rail to serve as gate drive for buck NMOS switch. Also serves as a logic high rail for output voltage select bits D0 and D1. A 4.7uF capacitor should be connected from VIN2 to GND. This pin is not (See Datasheet)", 8 D1 (in) "Output Voltage Select Bit. D1 should be tied high to VIN2 or low to GND to select desired VOUT (see Table 1).", 9 D0 (in) "Output Voltage Select Bit. D0 should be tied high to VIN2 or low to GND to select desired VOUT (see Table 1).", 10 PGOOD (out) "Power good output is logic high when VOUT is above 92% of the target value. The logic high is referenced to the VOUT rail.", 11 GND (power) "Ground. The Exposed Pad should be connected to a continuous ground plane on the second layer of the printed circuit board by several vias directly under the LTC3588-2."

## LTC3588IMSE-2#PBF
designator U?
Piezoelectric Energy Harvesting Power Supply with 14 V Minimum VIN, 10-pin SOP (MSE-10), -40 to 125 degC, Pb-Free; Manufacturer: Linear Technology; PartNumber: LTC3588IMSE-2#PBF; Number of Outputs: 1; Topology: Buck; Vin Max(V): 20; Vin Min(V): 14; Vout Max(V): 3.45, 4.1, 4.5, 5; DatasheetVersion: Rev. A; PackageVersion: Rev. I, 05/2013; PackageReference: MSE-10; PackageDescription: 10-Pin Plastic MSOP, Exposed Die Pad, Body 3 x 3 mm, Pitch 0.5 mm; Supplier 1: Digi-Key; Supplier Part Number 1: LTC3588IMSE-2#PBF-ND; Supplier 2: Farnell; Supplier Part Number 2: 2137009; Supplier 3: Newark; Supplier Part Number 3: 84R6702; Energy Source: Piezoelectric; RoHS: TRUE; Mounting Technology: Surface Mount; ComponentLink1Description: Manufacturer URL; ComponentLink1URL: http://www.linear.com/; ComponentLink2Description: Datasheet; ComponentLink2URL: http://cds.linear.com/docs/en/datasheet/35882fa.pdf; ComponentLink3Description: Package Specification; ComponentLink3URL: http://cds.linear.com/docs/en/packaging/05081664_I_MSE.pdf
footprint LT-MSE-10-EDP_N (SOP, 10-Leads, Body 3.1x3.1mm, Pitch 0.5mm, Thermal Pad 1.88x1.68mm, IPC Medium Density)
footprint LT-MSE-10-EDP_L (SOP, 10-Leads, Body 3.1x3.1mm, Pitch 0.5mm, Thermal Pad 1.88x1.68mm, IPC High Density)
footprint LT-MSE-10-EDP_M (SOP, 10-Leads, Body 3.1x3.1mm, Pitch 0.5mm, Thermal Pad 1.88x1.68mm, IPC Low Density)
pins: 1 PZ1 (power) "Input connection for piezoelectric element or other AC source (used in conjunction with PZ2).", 2 PZ2 (power) "Input connection for piezoelectric element or other AC source (used in conjunction with PZ1).", 3 CAP "Internal rail referenced to VIN to serve as gate drive for buck PMOS switch. A 1uF capacitor should be connected between CAP and VIN. This pin is not intended for use as an external system rail.", 4 VIN (power) "Rectified Input Voltage. A capacitor on this pin serves as an energy reservoir and input supply for the buck regulator. The VIN voltage is internally clamped to a maximum of 20V (typical).", 5 SW (power) "Switch Pin for the Buck Switching Regulator. A 22uH or larger inductor should be connected from SW to VOUT.", 6 VOUT (in) "Sense pin used to monitor the output voltage and adjust it through internal feedback.", 7 VIN2 (power) "Internal low voltage rail to serve as gate drive for buck NMOS switch. Also serves as a logic high rail for output voltage select bits D0 and D1. A 4.7uF capacitor should be connected from VIN2 to GND. This pin is not (See Datasheet)", 8 D1 (in) "Output Voltage Select Bit. D1 should be tied high to VIN2 or low to GND to select desired VOUT (see Table 1).", 9 D0 (in) "Output Voltage Select Bit. D0 should be tied high to VIN2 or low to GND to select desired VOUT (see Table 1).", 10 PGOOD (out) "Power good output is logic high when VOUT is above 92% of the target value. The logic high is referenced to the VOUT rail.", 11 GND (power) "Ground. The Exposed Pad should be connected to a continuous ground plane on the second layer of the printed circuit board by several vias directly under the LTC3588-2."